# EAGLE library part DYS_BLHELI_ESC (library matts)
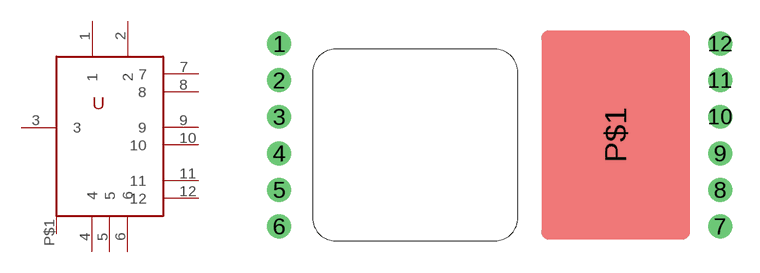
[diagram p3: symbol with the pads of DYS_BLHELI_ESC; footprint DYS_BLHELI_ESC]

Designator prefix -

## DYS_BLHELI_ESC  [DYS_BLHELI_ESC]
1  1  pwr
2  2  pwr
3  3  in
4  4  pwr
5  5  pwr
6  6  pwr
7  7  out
8  8  out
9  9  out
10  10  out
11  11  out
12  12  out
P$1  P$1  pwr

## Footprint DYS_BLHELI_ESC (pad centres in mm)
drill 0.8: 1 -12.065,5; 2 -12.065,3; 3 -12.065,1; 4 -12.065,-1; 5 -12.065,-3; 6 -12.065,-5; 7 12.065,-5; 8 12.065,-3; 9 12.065,-1; 10 12.065,1; 11 12.065,3; 12 12.065,5
smd 8.128 x 11.43: P$1 6.35,0